# Altium footprint library seed_sentinel.PcbLib: 32 footprints (part 1 of 2)
Each footprint in its own frame and in the unit in brackets; x right, y up, seen from the top. Pads: shape width x height; smd on the part's side, far side on the other; paste and mask are expansions set on the pad; w line width, h text height; cw(c..) or ccw(c..) is an arc to the next point about the centre after c.
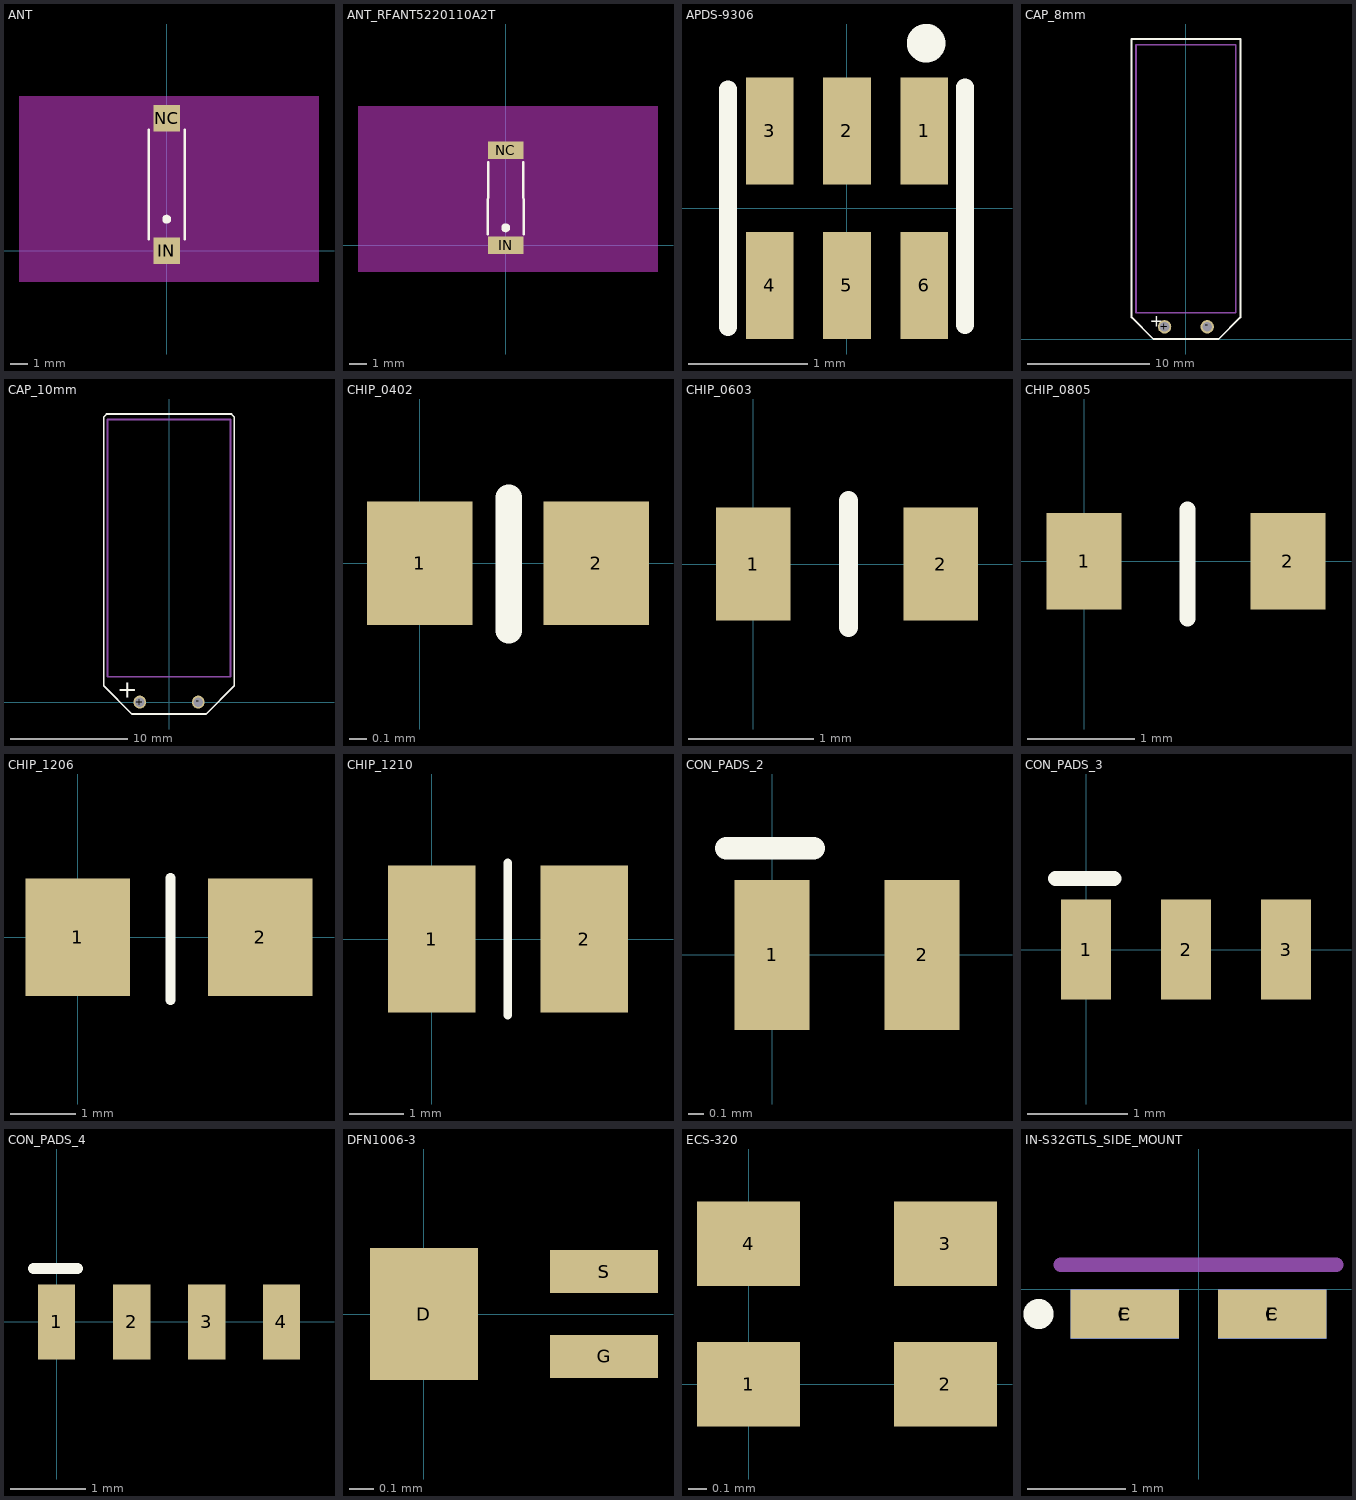
[diagram p0: the footprints below, top view; thin cyan lines are the x and y axes]

## ANT [mm]
pads (2):
  rect 1.5x1.5 smd: IN(0,0) NC(0,7.5)
Top Overlay:
  circle w0.254: c0,1.778 r0.127
  lines w0.15: -1.016,0.635 -1.016,6.858 ; 1.016,0.635 1.016,6.858
Keep-Out Layer:
  rectangle: -8.382,-1.778 8.636,8.763

## ANT_RFANT5220110A2T [mm]
pads (2):
  rect 2x1 smd: IN(0,0) NC(0,5.4)
Top Overlay:
  circle w0.254: c0,1 r0.127
  lines w0.15: -1.016,0.635 -1,4.7 ; 1,4.7 1.016,0.635
Keep-Out Layer:
  rectangle: -8.382,-1.5 8.636,7.9

## APDS-9306 [mm]
pads (6):
  rect 0.4x0.9 smd: 1(0.65,0.65) 2(0,0.65) 3(-0.65,0.65) 4(-0.65,-0.65) 5(0,-0.65) 6(0.65,-0.65)
Top Overlay:
  circle w0.254: c0.666,1.387 r0.035
  lines w0.15: -1,-1 -1,1 ; 0.993,-0.983 0.993,1.017

## CAP_8mm [mm]
pads (2):
  round 1.1 hole 0.8: +(-1.75,1) -(1.75,1)
Top Overlay:
  lines w0.15: -4.473,1.778 -4.453,1.778 -2.675,0 -1.016,0 2.7,0 4.478,1.778 4.492,1.778 4.492,24.603 4.488,24.606 4.488,24.638 0,24.638 -4.473,24.638 -4.473,1.778
  text "+" at -2.988,0.995 h1
Mechanical 1:
  lines w0.15: -4.1,2.159 -4.1,24.159 4.1,24.159 4.1,2.159 -4.1,2.159

## CAP_10mm [mm]
pads (2):
  round 1.1 hole 0.8: +(-2.5,0) -(2.5,0)
Top Overlay:
  lines w0.15: -5.588,1.397 -3.175,-1.016 0,-1.016 3.175,-1.016 5.588,1.397 5.588,1.778 5.588,24.384 5.334,24.638 0,24.638 -5.334,24.638 -5.588,24.384 -5.588,1.778 -5.588,1.397
  text "+" at -4.445,0.381 h1.52
Mechanical 1:
  lines w0.15: -5.25,2.159 -5.25,24.159 5.25,24.159 5.25,2.159 -5.25,2.159

## CHIP_0402 [mm]
pads (2):
  rect 0.6x0.7 smd: 1(0,0) 2(1,0)
Top Overlay:
  lines w0.15: 0.503,-0.382 0.503,0.372

## CHIP_0603 [mm]
pads (2):
  rect 0.6x0.9 smd: 1(0,0) 2(1.5,0)
Top Overlay:
  lines w0.15: 0.762,-0.508 0.762,0.508

## CHIP_0805 [mm]
pads (2):
  rect 0.7x0.9 smd: 1(0,0) 2(1.9,0)
Top Overlay:
  lines w0.15: 0.965,-0.533 0.965,0.483

## CHIP_1206 [mm]
pads (2):
  rect 1.6x1.8 smd: 1(0,0) 2(2.8,0)
Top Overlay:
  lines w0.15: 1.422,-0.965 1.422,0.914

## CHIP_1210 [mm]
pads (2):
  rect 1.6x2.7 smd: 1(0,0) 2(2.8,0)
Top Overlay:
  lines w0.15: 1.397,-1.397 1.397,1.397

## CON_PADS_2 [mm]
pads (2):
  rect 0.5x1 smd: 1(0,0) 2(1,0)
Top Overlay:
  lines w0.15: -0.305,0.711 0.279,0.711

## CON_PADS_3 [mm]
pads (3):
  rect 0.5x1 smd: 1(0,0) 2(1,0) 3(2,0)
Top Overlay:
  lines w0.15: -0.305,0.711 0.279,0.711

## CON_PADS_4 [mm]
pads (4):
  rect 0.5x1 smd: 1(0,0) 2(1,0) 3(2,0) 4(3,0)
Top Overlay:
  lines w0.15: -0.305,0.711 0.279,0.711

## DFN1006-3 [mm]
pads (3):
  rect 0.45x0.55 smd: D(0,0)
  rect 0.45x0.18 smd: G(0.75,-0.177) S(0.75,0.177)

## ECS-320 [mm]
pads (4):
  rect 0.55x0.45 smd: 1(0,0) 2(1.05,0) 3(1.05,0.75) 4(0,0.75)

## IN-S32GTLS_SIDE_MOUNT [mm]
pads (4):
  rect 1.1x0.5 smd far side: C(-0.75,-0.25) C(0.75,-0.25)
  rect 1.1x0.5 smd: E(-0.75,-0.25) E(0.75,-0.25)
Top Overlay:
  circle w0.254: c-1.626,-0.25 r0.025
Mechanical 1:
  lines w0.15: -1.397,0.25 1.397,0.25